# EAGLE library part HDC1080DMBT (library SamacSys_Parts)
Board Mount Humidity Sensors HDC1080 Low Power, High Accuracy Digital Humidity Sensor with Temperature Sensor 6-WSON -40 to 125 Source: Datasheet
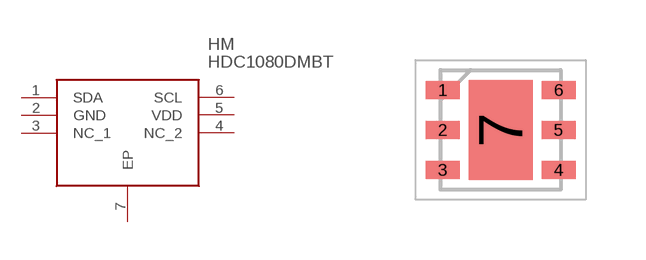
[diagram p7: symbol with the pads of SON100P300X300X80-7N; footprint SON100P300X300X80-7N]

Designator prefix HM

## HDC1080DMBT (DESCRIPTION: Board Mount Humidity Sensors HDC1080 Low Power, High Accuracy Digital Humidity Sensor with Temperature Sensor 6-WSON -40 to 125; HEIGHT: 0.8mm; MANUFACTURER_NAME: Texas Instruments; MANUFACTURER_PART_NUMBER: HDC1080DMBT; MOUSER_PART_NUMBER: 595-HDC1080DMBT; MOUSER_PRICE-STOCK: https://www.mouser.co.uk/ProductDetail/Texas-Instruments/HDC1080DMBT?qs=8%2FmU9qzJpL%2Fqe%252BNLnJj2sw%3D%3D)  [SON100P300X300X80-7N]
1  SDA
2  GND
3  NC_1
4  NC_2
5  VDD
6  SCL
7  EP

## Footprint SON100P300X300X80-7N (pad centres in mm)
DFN6
smd 0.85 x 0.45: 1 -1.45,1; 2 -1.45,0; 3 -1.45,-1; 4 1.45,-1; 5 1.45,0; 6 1.45,1
smd 1.6 x 2.5: 7 0,0